# Altium schematic symbol library GBU6M.SchLib: 1 symbol
Pins are listed as number, name and electrical type; pins without a type are passive.

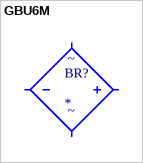
[diagram p0: symbol GBU6M]

## GBU6M
designator BR?
Bridge Rectifier Single Phase Standard 1 kV Through Hole GBU; MF: ON Semiconductor; MP: GBU6M; SnapEDA_Link: https://www.snapeda.com/parts/GBU6M/Onsemi/view-part/?ref=snap; Package: SIP-4 ON Semiconductor; Value: *; Check_prices: https://www.snapeda.com/parts/GBU6M/Onsemi/view-part/?ref=eda
footprint GBU_4L
pins: 1 (io), 2 (io), 3 (io), 4 (io)
text: ~